# EAGLE library part TLV320DAC23 (library mylib)
Stereo Audio D/A Converter, 8? to 96?kHz With Integrated Headphone Amplifier
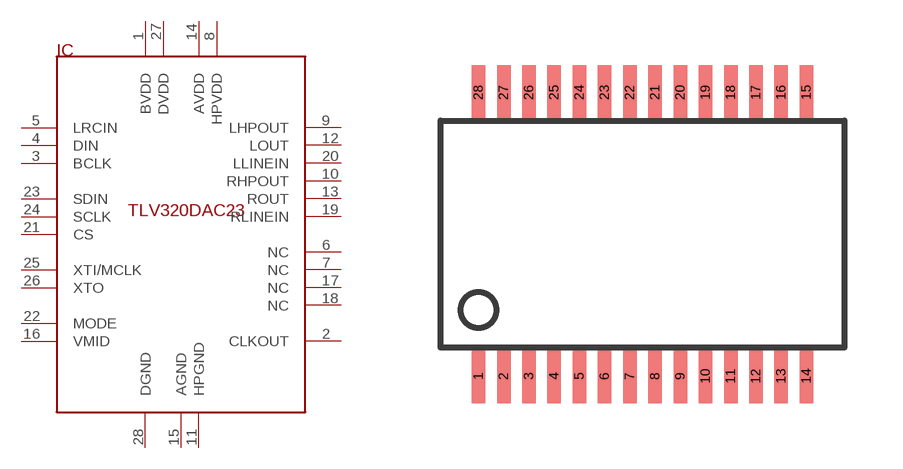
[diagram p6: symbol with the pads of SSOP28; footprint SSOP28]

Designator prefix IC

## TLV320DAC23  [SSOP28]
1  BVDD  pwr
2  CLKOUT
3  BCLK
4  DIN
5  LRCIN
6  NC  nc
7  NC  nc
8  HPVDD  pwr
9  LHPOUT
10  RHPOUT
11  HPGND  pwr
12  LOUT
13  ROUT
14  AVDD  pwr
15  AGND  pwr
16  VMID
17  NC  nc
18  NC  nc
19  RLINEIN
20  LLINEIN
21  CS
22  MODE
23  SDIN
24  SCLK
25  XTI/MCLK
26  XTO
27  DVDD  pwr
28  DGND  pwr

## Footprint SSOP28 (pad centres in mm)
smd 0.348 x 1.397: 1 1.614,-0.595; 2 2.264,-0.595; 3 2.914,-0.595; 4 3.564,-0.595; 5 4.214,-0.595; 6 4.864,-0.595; 7 5.514,-0.595; 8 6.164,-0.595; 9 6.814,-0.595; 10 7.464,-0.595; 11 8.114,-0.595; 12 8.764,-0.595; 13 9.414,-0.595; 14 10.064,-0.595; 15 10.064,6.717; 16 9.414,6.717; 17 8.764,6.717; 18 8.114,6.717; 19 7.464,6.717; 20 6.814,6.717; 21 6.164,6.717; 22 5.514,6.717; 23 4.864,6.717; 24 4.214,6.717; 25 3.564,6.717; 26 2.914,6.717; 27 2.264,6.717; 28 1.614,6.717